# EAGLE library part HEADER19F (library Library)
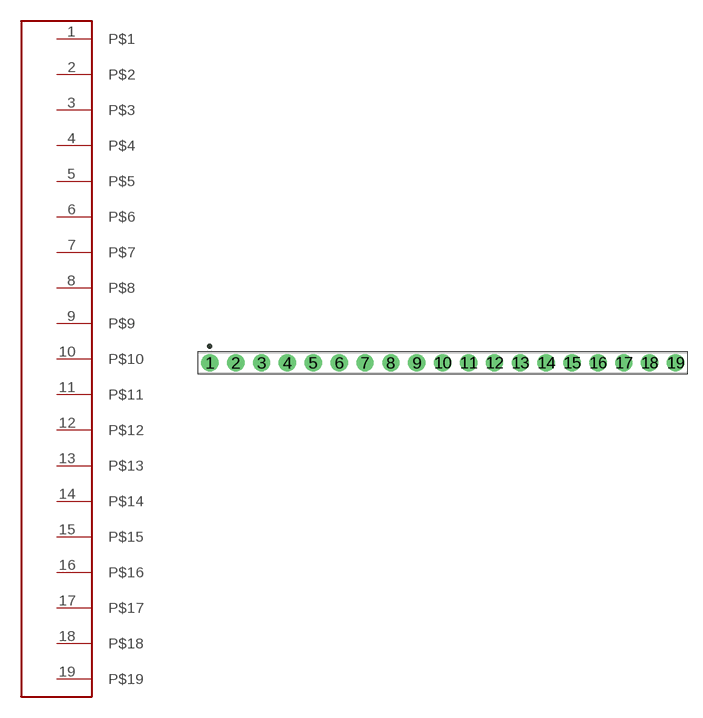
[diagram p0: symbol with the pads of HDRVR19W64P254_1X19_2908X200X254B; footprint HDRVR19W64P254_1X19_2908X200X254B]

Designator prefix -

## HEADER19F  [HDRVR19W64P254_1X19_2908X200X254B]
1  P$1
2  P$2
3  P$3
4  P$4
5  P$5
6  P$6
7  P$7
8  P$8
9  P$9
10  P$10
11  P$11
12  P$12
13  P$13
14  P$14
15  P$15
16  P$16
17  P$17
18  P$18
19  P$19

## Footprint HDRVR19W64P254_1X19_2908X200X254B (pad centres in mm)
Single-row, 19-pin Receptacle Header (Female) Straight, 2.54 mm (0.10 in) col pitch, 2.54 mm insulator length, 29.08 X 2.00 X 2.54 mm body Single-row (1X19), 19-pin Receptacle Header (Female) Straight package with 2.54 mm (0.10 in) col pitch, 0.64 mm lead width, 3.00 mm tail length and 2.54 mm insulator length with overall size 29.08 X 2.00 X 2.54 mm, pin pattern - clockwise from top left
drill 1.105 pad 1.705: 1 0,0; 2 2.54,0; 3 5.08,0; 4 7.62,0; 5 10.16,0; 6 12.7,0; 7 15.24,0; 8 17.78,0; 9 20.32,0; 10 22.86,0; 11 25.4,0; 12 27.94,0; 13 30.48,0; 14 33.02,0; 15 35.56,0; 16 38.1,0; 17 40.64,0; 18 43.18,0; 19 45.72,0